# Altium schematic symbol library XF2M-0815-1A.SchLib: 1 symbol
Pins are listed as number, name and electrical type; pins without a type are passive.

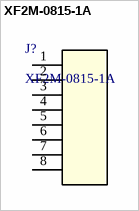
[diagram p0: symbol XF2M-0815-1A]

## XF2M-0815-1A
designator J?
Description; Manufacturer_Name: Omron; Copyright: Copyright (C) 2026 Ultra Librarian. All rights reserved.; Manufacturer_Part_Number: XF2M-0815-1A; RefDes: RefDes; Type: Type
footprint CONN_XF2M-0815-1A_OMR
pins: 1, 2, 3, 4, 5, 6, 7, 8